# Altium schematic symbol library MIA-M10Q-00B.SchLib: 1 symbol
Pins are listed as number, name and electrical type; pins without a type are passive.

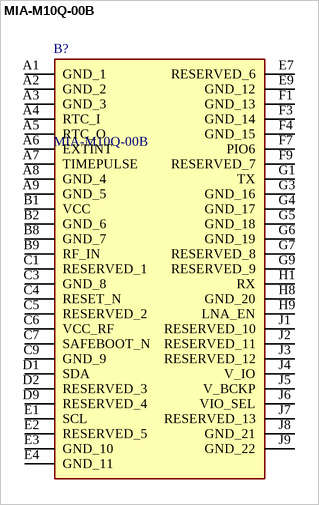
[diagram p0: symbol MIA-M10Q-00B]

## MIA-M10Q-00B
designator B?
u-blox M10 GNSS System-in-Package ROM, TCXO, SAW, LNA, 1.8/3V 4.5 x 4.5 mm, S-LGA 53,; Geometry.Height: 1.045mm; Mouser Part Number: 377-MIA-M10Q-00B; Mouser Price/Stock: https://www.mouser.co.uk/ProductDetail/u-blox/MIA-M10Q-00B?qs=4ASt3YYao0VBtAexfwtW5Q%3D%3D; Manufacturer_Name: U-Blox; Manufacturer_Part_Number: MIA-M10Q-00B; Datasheet Link: https://content.u-blox.com/sites/default/files/documents/MIA-M10Q_DataSheet_UBX-22015849.pdf
footprint MIAM10Q00B
pins: A1 GND_1, A2 GND_2, A3 GND_3, A4 RTC_I, A5 RTC_O, A6 EXTINT, A7 TIMEPULSE, A8 GND_4, A9 GND_5, B1 VCC, B2 GND_6, B8 GND_7, B9 RF_IN, C1 RESERVED_1, C3 GND_8, C4 RESET_N, C5 RESERVED_2, C6 VCC_RF, C7 SAFEBOOT_N, C9 GND_9, D1 SDA, D2 RESERVED_3, D9 RESERVED_4, E1 SCL, E2 RESERVED_5, E3 GND_10, E4 GND_11, E7 RESERVED_6, E9 GND_12, F1 GND_13, F3 GND_14, F4 GND_15, F7 PIO6, F9 RESERVED_7, G1 TX, G3 GND_16, G4 GND_17, G5 GND_18, G6 GND_19, G7 RESERVED_8, G9 RESERVED_9, H1 RX, H8 GND_20, H9 LNA_EN, J1 RESERVED_10, J2 RESERVED_11, J3 RESERVED_12, J4 V_IO, J5 V_BCKP, J6 VIO_SEL, J7 RESERVED_13, J8 GND_21, J9 GND_22